# Altium schematic symbol library 3216S32FU70GH203BC-A.A1.Schlib: 1 symbol
Pins are listed as number, name and electrical type; pins without a type are passive.

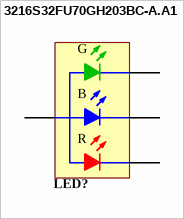
[diagram p0: symbol 3216S32FU70GH203BC-A.A1]

## 3216S32FU70GH203BC-A.A1
designator LED?, comment 3216S32FU70GH203BC-A  (value not drawn)
Hongli LED, RGB, SMD
pins: 1 R, 2 A2, 3 B, 4 G